# Altium schematic symbol library ICs.SchLib: 23 symbols
Pins are listed as number, name and electrical type; pins without a type are passive.

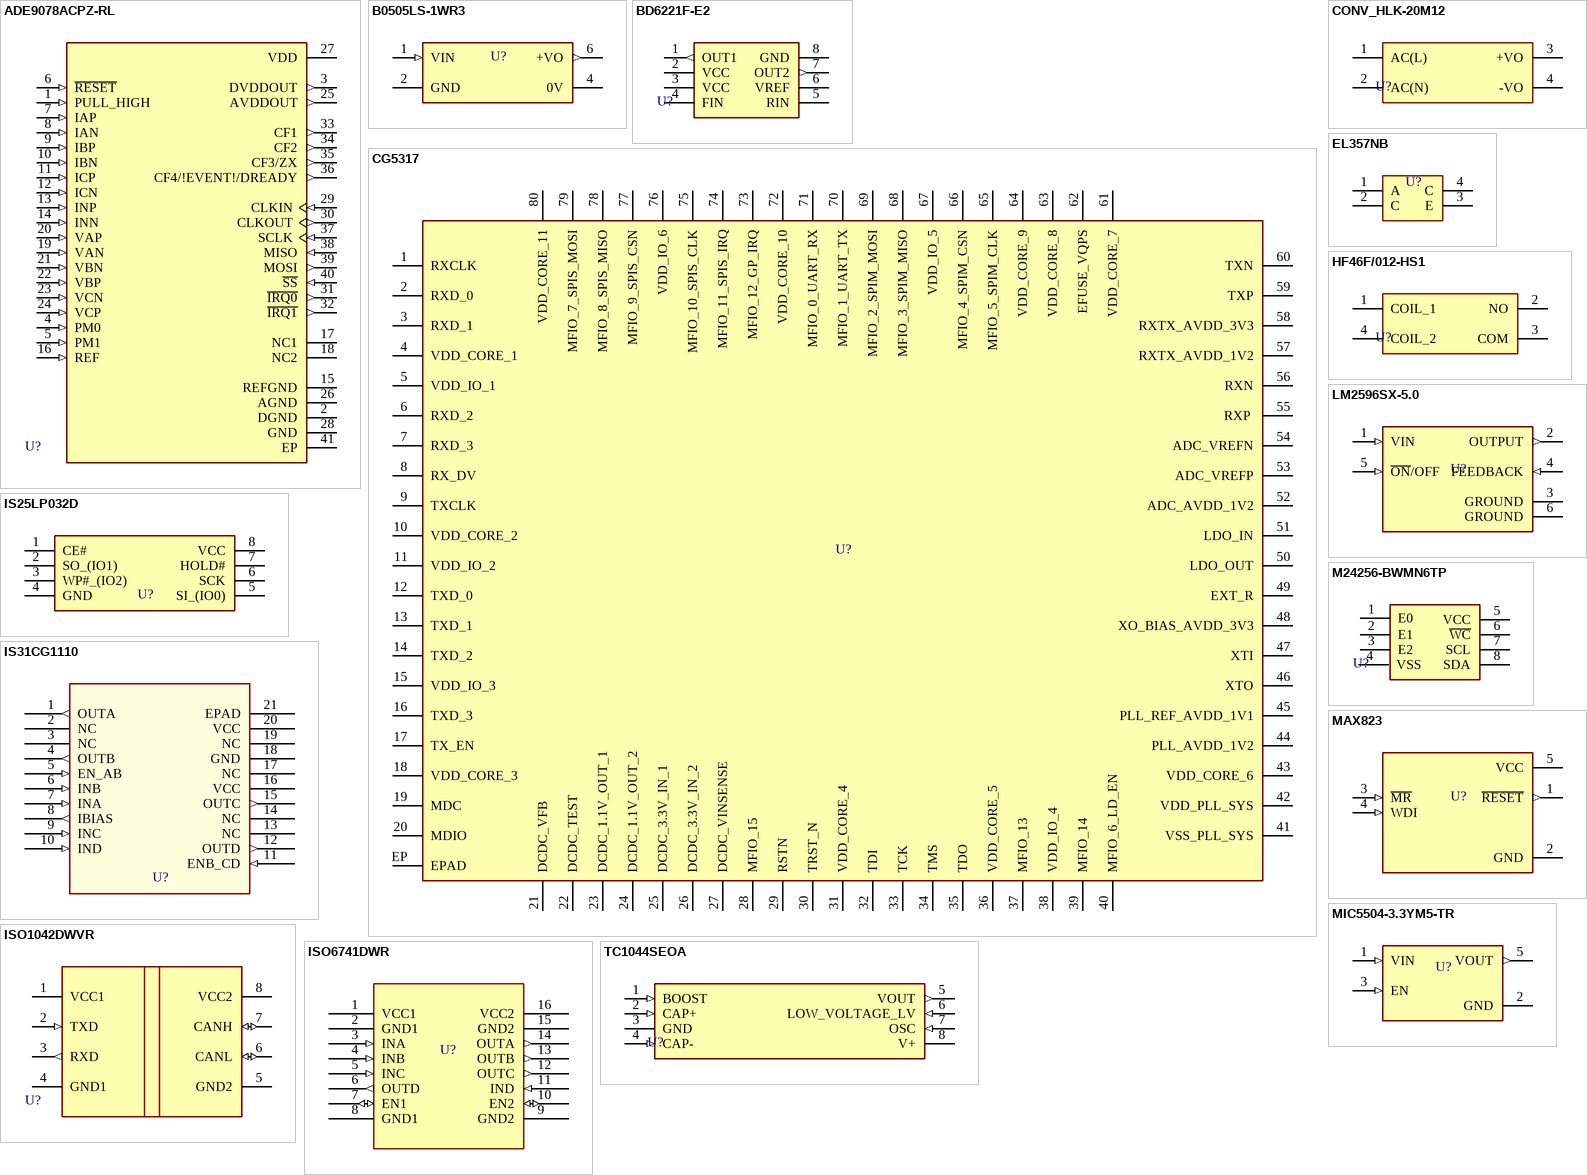
[diagram p0: symbols ADE9078ACPZ-RL to TC1044SEOA]

## ADE9078ACPZ-RL
designator U?  (value not drawn)
Energy Measurement 40-Pin LFCSP EP T/R; ComponentLink1Description: New link; ComponentLink1URL: *; value: *
footprint ADE9078ACPZ-RL (LFCSP-40)
pins: 1 PULL_HIGH (in), 2 DGND (power), 3 DVDDOUT (out), 4 PM0 (in), 5 PM1 (in), 6 ~{RESET} (in), 7 IAP (in), 8 IAN (in), 9 IBP (in), 10 IBN (in), 11 ICP (in), 12 ICN (in), 13 INP (in), 14 INN (in), 15 REFGND (power), 16 REF (in), 17 NC1, 18 NC2, 19 VAN (in), 20 VAP (in), 21 VBN (in), 22 VBP (in), 23 VCN (in), 24 VCP (in), 25 AVDDOUT (out), 26 AGND (power), 27 VDD (power), 28 GND (power), 29 CLKIN (in), 30 CLKOUT (out), 31 ~{IRQ0} (out), 32 ~{IRQ1} (out), 33 CF1 (out), 34 CF2 (out), 35 CF3/ZX (out), 36 CF4/!EVENT!/DREADY (out), 37 SCLK (in), 38 MISO (in), 39 MOSI (out), 40 ~{SS} (in), 41 EP (power)

## B0505LS-1WR3
designator U?  (value not drawn)
Isolated Module DC DC Converter 1 Output 5V 200mA 4.5V - 5.5V Input; ComponentLink1Description: New link; ComponentLink1URL: *; value: *
footprint CONV_B0505LS-1WR3 (SIP,19.7x6mm)
pins: 1 VIN (in), 2 GND (power), 4 0V, 6 +VO (out)

## BD6221F-E2
designator U?  (value not drawn)
Motor/Motion/Ignition Controllers & Drivers H-BRIDGE 18V max 1 Chan 1.0A 1.5ohm; ComponentLink1Description: New link; value: *
footprint BD6221F-E2 (SOP-8)
pins: 1 OUT1 (out), 2 VCC (power), 3 VCC (power), 4 FIN, 5 RIN, 6 VREF (power), 7 OUT2 (out), 8 GND (power)

## CG5317
designator U?, comment HomePlug Green PHY Transceiver  (value not drawn)
HomePlug Green PHY Transceiver,EP-LQFP80; ComponentLink1Description: New link; value: *
footprint EP-LQFP80
pins: 1 RXCLK, 2 RXD_0, 3 RXD_1, 4 VDD_CORE_1, 5 VDD_IO_1, 6 RXD_2, 7 RXD_3, 8 RX_DV, 9 TXCLK, 10 VDD_CORE_2, 11 VDD_IO_2, 12 TXD_0, 13 TXD_1, 14 TXD_2, 15 VDD_IO_3, 16 TXD_3, 17 TX_EN, 18 VDD_CORE_3, 19 MDC, 20 MDIO, 21 DCDC_VFB, 22 DCDC_TEST, 23 DCDC_1.1V_OUT_1, 24 DCDC_1.1V_OUT_2, 25 DCDC_3.3V_IN_1, 26 DCDC_3.3V_IN_2, 27 DCDC_VINSENSE, 28 MFIO_15, 29 RSTN, 30 TRST_N, 31 VDD_CORE_4, 32 TDI, 33 TCK, 34 TMS, 35 TDO, 36 VDD_CORE_5, 37 MFIO_13, 38 VDD_IO_4, 39 MFIO_14, 40 MFIO_6_LD_EN, 41 VSS_PLL_SYS, 42 VDD_PLL_SYS, 43 VDD_CORE_6, 44 PLL_AVDD_1V2, 45 PLL_REF_AVDD_1V1, 46 XTO, 47 XTI, 48 XO_BIAS_AVDD_3V3, 49 EXT_R, 50 LDO_OUT, 51 LDO_IN, 52 ADC_AVDD_1V2, 53 ADC_VREFP, 54 ADC_VREFN, 55 RXP , 56 RXN, 57 RXTX_AVDD_1V2, 58 RXTX_AVDD_3V3, 59 TXP, 60 TXN, 61 VDD_CORE_7, 62 EFUSE_VQPS, 63 VDD_CORE_8, 64 VDD_CORE_9, 65 MFIO_5_SPIM_CLK, 66 MFIO_4_SPIM_CSN, 67 VDD_IO_5, 68 MFIO_3_SPIM_MISO, 69 MFIO_2_SPIM_MOSI, 70 MFIO_1_UART_TX, 71 MFIO_0_UART_RX, 72 VDD_CORE_10, 73 MFIO_12_GP_IRQ, 74 MFIO_11_SPIS_IRQ, 75 MFIO_10_SPIS_CLK, 76 VDD_IO_6, 77 MFIO_9_SPIS_CSN, 78 MFIO_8_SPIS_MISO, 79 MFIO_7_SPIS_MOSI, 80 VDD_CORE_11, EP EPAD

## CONV_HLK-20M12
designator U?  (value not drawn)
12V 1.6A 90VAC~265VAC 120V~350V 20W Step Down AC-DC 82% Plugin Power Modules ROHS; ComponentLink1Description: New link; ComponentLink1URL: *; value: *
footprint CONV_HLK-20M12
pins: 1 AC(L), 2 AC(N), 3 +VO, 4 -VO

## EL357NB
designator U?  (value not drawn)
80V 3.75kV 80mA 100mV@1mA,20mA 1 6V 1.2V DC SOP-4 Transistor Output Optocoupler; ComponentLink1Description: New link; ComponentLink1URL: *; value: *
footprint SOP-4
pins: 1 A, 2 C, 3 E, 4 C

## HF46F/012-HS1
designator U?  (value not drawn)
12V 5A Normal Open:1A(SPST-Normal Open) Plugin,7x20.5mm Power Relays ROHS; ComponentLink1Description: New link; ComponentLink1URL: *; value: *
footprint HF46F/012-HS1 (Plugin,7x20.5mm)
pins: 1 COIL_1, 2 NO, 3 COM, 4 COIL_2

## IS25LP032D
designator U?, comment Flash Memory  (value not drawn)
FLASH - NOR Memory IC 32Mb (4M x 8) SPI - Quad I/O, QPI, DTR 133 MHz 8-SOIC; ComponentLink1Description: New link; value: *
footprint SOIC-8
pins: 1 CE#, 2 SO_(IO1), 3 WP#_(IO2), 4 GND, 5 SI_(IO0), 6 SCK, 7 HOLD#, 8 VCC

## IS31CG1110
designator U?, comment ISSI Line Driver IC  (value not drawn)
Buffers & Line Drivers High-performance MIMO/SISO dual port differential line driver designed to work in broadband PLC system; ComponentLink1Description: New link; value: *
footprint QFLS2
pins: 1 OUTA (out), 2 NC, 3 NC, 4 OUTB (out), 5 EN_AB (in), 6 INB (in), 7 INA (in), 8 IBIAS (out), 9 INC (in), 10 IND (in), 11 ENB_CD (in), 12 OUTD (out), 13 NC, 14 NC, 15 OUTC (out), 16 VCC (power), 17 NC, 18 GND (power), 19 NC, 20 VCC (power), 21 EPAD (power)

## ISO1042DWVR
designator U?, comment CAN Transceiver  (value not drawn)
CAN Interface IC Isolated CAN transceiver with 70-V bus fault protection & flexible data rate 8-SOIC -40 to 125; ComponentLink1Description: New link
footprint ISO1042DWVR
pins: 1 VCC1 (power), 2 TXD (in), 3 RXD (out), 4 GND1 (power), 5 GND2 (power), 6 CANL (io), 7 CANH (io), 8 VCC2 (power)

## ISO6741DWR
designator U?  (value not drawn)
CAN, RS232, RS485, SPI Digital Isolator 5000Vrms 4 Channel 50Mbps 100kV/µs CMTI 16-SOIC (0.295", 7.50mm Width); ComponentLink1Description: New link; ComponentLink1URL: *; value: *
footprint SOIC-16
pins: 1 VCC1 (power), 2 GND1 (power), 3 INA (in), 4 INB (in), 5 INC (in), 6 OUTD (out), 7 EN1 (io), 8 GND1 (power), 9 GND2 (power), 10 EN2 (io), 11 IND (in), 12 OUTC (out), 13 OUTB (out), 14 OUTA (out), 15 GND2 (power), 16 VCC2 (power)

## LM2596SX-5.0
designator U?  (value not drawn)
SIMPLE SWITCHER&reg; 4.5V to 40V, 3A Low Component Count Step-Down Regulator; ComponentLink1Description: New link; ComponentLink1URL: *; value: *
footprint TO-263-5
pins: 1 VIN (in), 2 OUTPUT (out), 3 GROUND (power), 4 FEEDBACK (in), 5 ~{ON}/OFF (in), 6 GROUND (power)

## M24256-BWMN6TP
designator U?  (value not drawn)
M24256-BWMN6TP, Serial EEPROM Memory 256kbit, Serial-I2C, 900ns 2.5  5.5 V, 8-Pin SOIC; ComponentLink1Description: New link; value: *
footprint SOIC-8
pins: 1 E0, 2 E1, 3 E2, 4 VSS, 5 VCC, 6 ~{WC}, 7 SCL, 8 SDA

## MAX823
designator U?, comment Supervisory Circuits  (value not drawn)
Supervisory Circuits 5-Pin Microprocessor Supervisory Circuit; ComponentLink1Description: New link; value: *
footprint SOT-23-5
pins: 1 ~{RESET} (out), 2 GND (power), 3 ~{MR} (in), 4 WDI (in), 5 VCC (power)

## MIC5504-3.3YM5-TR
designator U?  (value not drawn)
Single 300mA LDO with Enable Pull-Down & Auto Discharge; ComponentLink1Description: New link; ComponentLink1URL: *; value: *
footprint SOT-23-5
pins: 1 VIN (in), 2 GND (power), 3 EN (in), 5 VOUT (out)

## TC1044SEOA
designator U?  (value not drawn)
Fixed -12V~-1.5V 1.5V~12V 20mA IC Charge Pump SOIC-8 DC-DC Converters ROHS; ComponentLink1Description: New link; ComponentLink1URL: *; value: *
footprint SOIC-8
pins: 1 BOOST (in), 2 CAP+ (in), 3 GND, 4 CAP- (in), 5 VOUT (out), 6 LOW_VOLTAGE_LV (in), 7 OSC (in), 8 V+ (power)

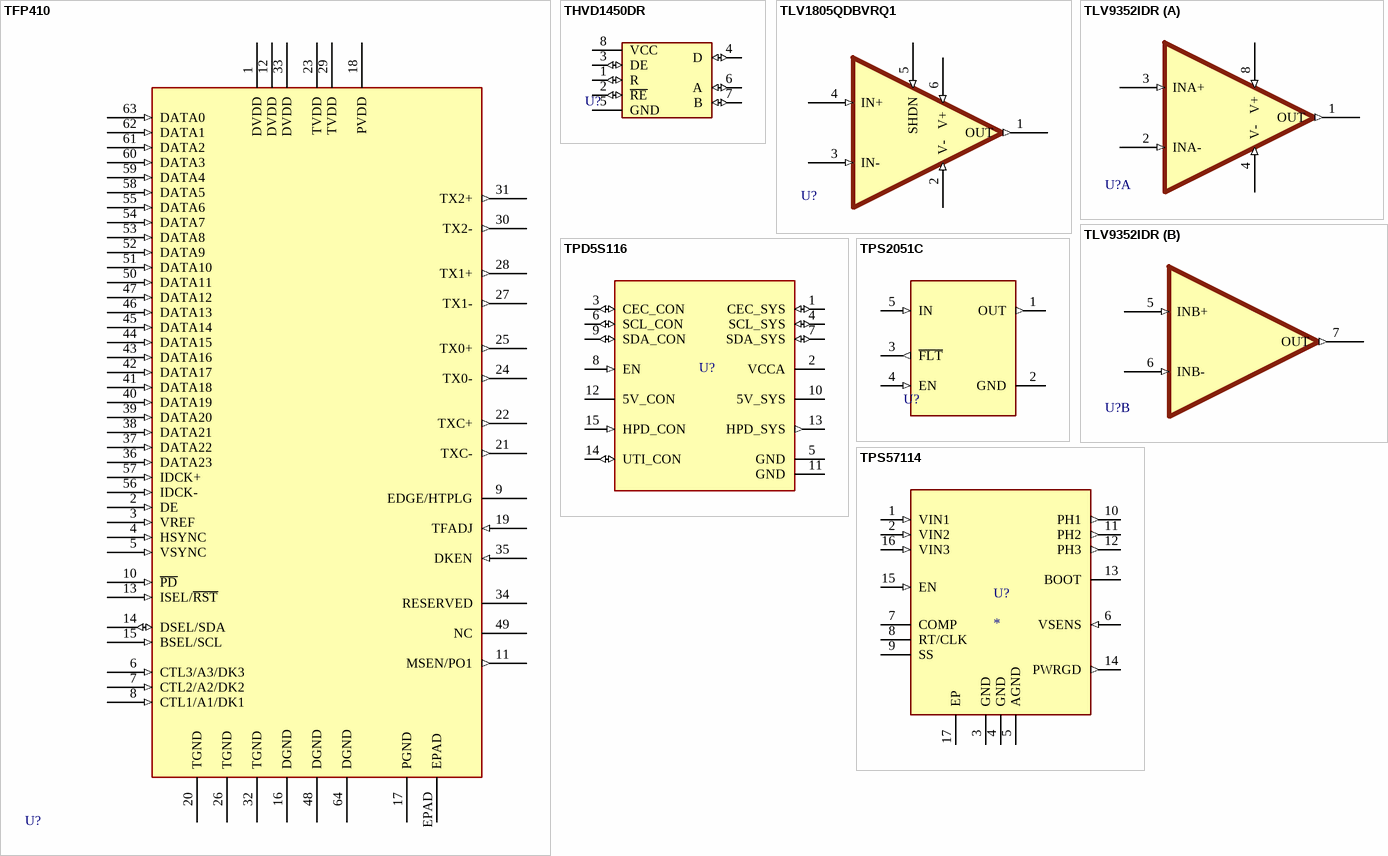
[diagram p1: symbols TFP410 to TPS57114]

## TFP410
designator U?, comment HDMI Transmitter  (value not drawn)
HDMI Transmitter - 165-MHz TMDS DVI transmitter/serializer & Panelbus; ComponentLink1Description: New link; value: *
footprint TFP410 (HTQFP-64)
pins: 1 DVDD (power), 2 DE (in), 3 VREF (in), 4 HSYNC (in), 5 VSYNC (in), 6 CTL3/A3/DK3 (in), 7 CTL2/A2/DK2 (in), 8 CTL1/A1/DK1 (in), 9 EDGE/HTPLG, 10 ~{PD} (in), 11 MSEN/PO1 (out), 12 DVDD (power), 13 ISEL/~{RST} (in), 14 DSEL/SDA (io), 15 BSEL/SCL (in), 16 DGND (power), 17 PGND (power), 18 PVDD (power), 19 TFADJ (in), 20 TGND (power), 21 TXC- (out), 22 TXC+ (out), 23 TVDD (power), 24 TX0- (out), 25 TX0+ (out), 26 TGND (power), 27 TX1- (out), 28 TX1+ (out), 29 TVDD (power), 30 TX2- (out), 31 TX2+ (out), 32 TGND (power), 33 DVDD (power), 34 RESERVED, 35 DKEN (in), 36 DATA23 (in), 37 DATA22 (in), 38 DATA21 (in), 39 DATA20 (in), 40 DATA19 (in), 41 DATA18 (in), 42 DATA17 (in), 43 DATA16 (in), 44 DATA15 (in), 45 DATA14 (in), 46 DATA13 (in), 47 DATA12 (in), 48 DGND (power), 49 NC, 50 DATA11 (in), 51 DATA10 (in), 52 DATA9 (in), 53 DATA8 (in), 54 DATA7 (in), 55 DATA6 (in), 56 IDCK- (in), 57 IDCK+ (in), 58 DATA5 (in), 59 DATA4 (in), 60 DATA3 (in), 61 DATA2 (in), 62 DATA1 (in), 63 DATA0 (in), 64 DGND (power), EPAD

## THVD1450DR
designator U?  (value not drawn)
3.3-V to 5-V RS-485 transceiver with ±18-kV IEC ESD protection; ComponentLink1Description: New link; value: *
footprint SOIC-8
pins: 1 R (io), 2 ~{RE} (io), 3 DE (io), 4 D (io), 5 GND (power), 6 A (io), 7 B (io), 8 VCC (power)

## TLV1805QDBVRQ1
designator U?  (value not drawn)
Automotive high volt comparator with push-pull output and shutdown 6-SOT-23 -40 to 125; ComponentLink1Description: New link; ComponentLink1URL: *; value: *
footprint SOT-23-6
pins: 1 OUT (out), 2 V- (in), 3 IN- (in), 4 IN+ (in), 5 SHDN (in), 6 V+ (in)

## TLV9352IDR
designator U?  (value not drawn)
Dual, 40-V, 3.5-MHz, low-power operational amplifier; ComponentLink1Description: New link; ComponentLink1URL: *; value: *
footprint SOIC-8
part A pins: 1 OUT (out), 2 INA- (in), 3 INA+ (in), 4 V- (in), 8 V+ (in)
part B pins: 5 INB+ (in), 6 INB- (in), 7 OUT (out)

## TPD5S116
designator U?, comment HDMI companion chip  (value not drawn)
HDMI companion chip with 5-V load switch, level shifter, and ESD clamp; ComponentLink1Description: New link
footprint DSBGA-15 (TPD5S116)
pins: 1 CEC_SYS (io), 2 VCCA (power), 3 CEC_CON (io), 4 SCL_SYS (io), 5 GND (power), 6 SCL_CON (io), 7 SDA_SYS (io), 8 EN (in), 9 SDA_CON (io), 10 5V_SYS (power), 11 GND (power), 12 5V_CON (power), 13 HPD_SYS (out), 14 UTI_CON (io), 15 HPD_CON (in)

## TPS2051C
designator U?, comment Current Limiting Power Switch  (value not drawn)
Current Limiting Switch 0.5A loading, 4.5-5.5V, 97mΩ USB power switch, active-high, output discharge, reverse blocking; ComponentLink1Description: New link; ComponentLink1URL: *; value: *
footprint SOT-23-5
pins: 1 OUT (out), 2 GND (power), 3 ~{FLT} (out), 4 EN (in), 5 IN (in)

## TPS57114
designator U?
Buck Switching Regulator IC Positive Adjustable 0.8V 1 Output 4A 16-WFQFN Exposed Pad; ComponentLink1Description: New link; ComponentLink1URL: *; value: *
footprint WQFN-16
pins: 1 VIN1 (in), 2 VIN2 (in), 3 GND (power), 4 GND (power), 5 AGND (power), 6 VSENS (in), 7 COMP, 8 RT/CLK, 9 SS, 10 PH1 (out), 11 PH2 (out), 12 PH3 (out), 13 BOOT, 14 PWRGD (out), 15 EN (in), 16 VIN3 (in), 17 EP (power)